# Altium schematic symbol library Coil.SchLib: 1 symbol
Pins are listed as number, name and electrical type; pins without a type are passive.

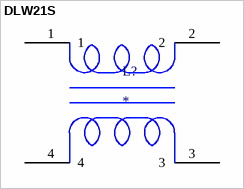
[diagram p0: symbol DLW21S]

## DLW21S
designator L?
Chip Common Mode Choke Coils; Digikey Part Number: 490-5137-1-ND
footprint 0805-4pin
pins: 1, 2, 3, 4